# Altium schematic symbol library Semiconductors.SchLib: 5 symbols
Pins are listed as number, name and electrical type; pins without a type are passive.

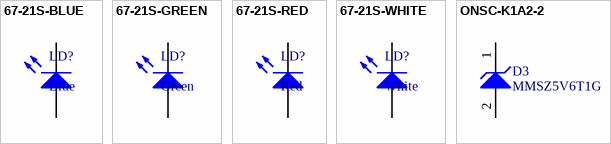
[diagram p0: symbols 67-21S-BLUE to ONSC-K1A2-2]

## 67-21S-BLUE
designator LD?, comment Blue
Everlight 67-21S/NB3C-D6575B8L52936Z15/2T
footprint 67-21S LED (LED 2835 SMD)
pins: 1 K, 2 A

## 67-21S-GREEN
designator LD?, comment Green
Everlight 67-21S/NG3C-D2035N3PB2936Z15/2T
footprint 67-21S LED (LED 2835 SMD)
pins: 1 K, 2 A

## 67-21S-RED
designator LD?, comment Red
Everlight 67-21S/NR3C-D1530L6M41829Z15/2T
footprint 67-21S LED (LED 2835 SMD)
pins: 1 K, 2 A

## 67-21S-WHITE
designator LD?, comment White
Everlight 67-21S/KK5C-3H6565R4R72834Z15/2T/EU
footprint 67-21S LED (LED 2835 SMD)
pins: 1 A, 2 K

## ONSC-K1A2-2
designator D3, comment MMSZ5V6T1G
Zener Voltage Regulator, 500 mW, 2-Pin SOD-123, Pb-Free, Tape and Reel; Manufacturer: On Semiconductor; P Max (W): 0.5; PackageVersion: Rev. G, 10/2009; ComponentLink2Description: Datasheet; ComponentLink2URL: http://www.onsemi.com/pub_link/Collateral/MMSZ2V4T1-D.PDF; ComponentLink3Description: Package Specification; DatasheetVersion: Rev. 11; PackageDescription: 2-Pin SOD, Body 1.6 x 2.69 mm; ComponentLink1Description: Manufacturer URL; ComponentLink3URL: http://www.onsemi.com/pub_link/Collateral/425-04.PDF; ComponentLink1URL: http://www.onsemi.com/; Mounting Technology: Surface Mount; PartNumber: MMSZ5V6T1G; PackageReference: SOD-123-2-425-04; RoHS: Pb-Free; Packing: Tape and Reel
footprint ONSC-SOD-123-2-425-04_V (SOD, 2-Leads, Body 2.69x1.6mm)
pins: 1 K, 2 A